# Altium footprint library SOM-188.PcbLib: 7 footprints
Each footprint in its own frame and in the unit in brackets; x right, y up, seen from the top. Pads: shape width x height; smd on the part's side, far side on the other; paste and mask are expansions set on the pad; w line width, h text height; cw(c..) or ccw(c..) is an arc to the next point about the centre after c.
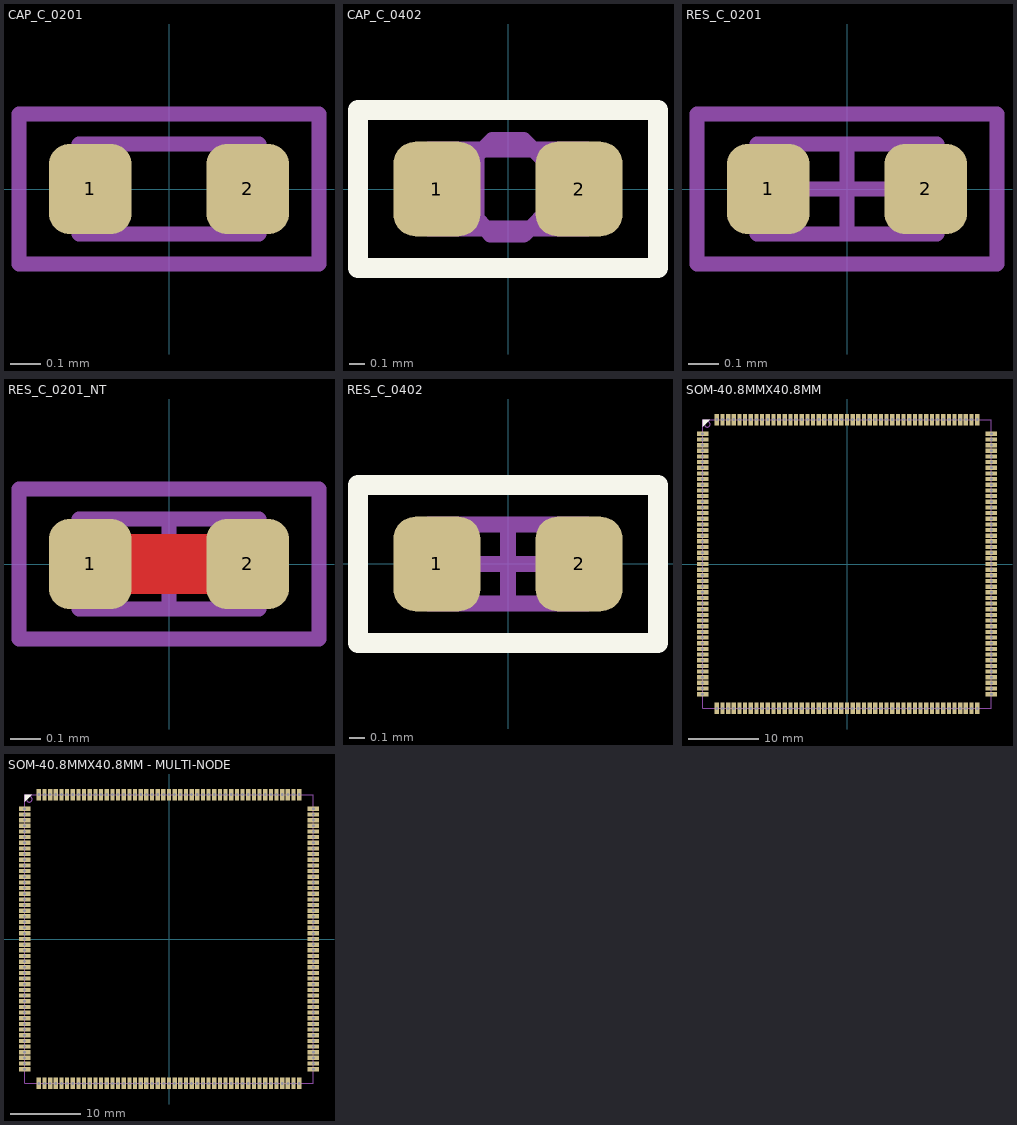
[diagram p0: the footprints below, top view; thin cyan lines are the x and y axes]

## CAP_C_0201 [mm] "Chip Capacitor, 2-Leads, Body 0.6x0.3mm, IPC Medium Density"
height 0.3
pads (2):
  rrect50% 0.275x0.3 smd mask+0.05: 1(-0.262,0) 2(0.262,0)
Assy TOP (M11):
  lines w0.05: -0.3,-0.15 -0.3,0.15 0.3,0.15 0.3,-0.15 -0.3,-0.15
  text ".Designator" at -0.25,-0.1 h0.2
Guard TOP (M15):
  lines w0.05: -0.5,-0.25 0.5,-0.25 0.5,0.25 -0.5,0.25 -0.5,-0.25
  text "C" at -0.075,-0.1 h0.2
3D body "User Library-SMD CAPACITOR.STEP": height 0.28, standoff -0.02, extent -0.3,-0.15 0.3,0.15

## CAP_C_0402 [mm] "Chip Capacitor, 2-Leads, Body 1.0x0.5mm, IPC High Density"
height 0.5
pads (2):
  rrect50% 0.55x0.6 smd: 1(-0.45,0) 2(0.45,0)
Top Overlay:
  lines w0.125: -0.95,-0.5 0.95,-0.5 0.95,0.5 -0.95,0.5 -0.95,-0.5
Assy TOP (M11):
  lines w0.1: -0.5,-0.25 0.5,-0.25 0.5,0.25 -0.5,0.25 -0.5,-0.25
  text ".Designator" at -0.4,-0.15 h0.3
3D TOP (M13):
  lines w0.1: -0.5,-0.25 -0.5,0.25 0.5,0.25 0.5,-0.25 -0.5,-0.25
Guard TOP (M15):
  lines w0.1: 0.2,-0.19 0.1,-0.29 -0.11,-0.29 -0.2,-0.18 -0.2,0.21 -0.1,0.31 0.1,0.31 0.2,0.21 ; -0.95,-0.5 -0.95,0.5 0.95,0.5 0.95,-0.5 -0.95,-0.5
3D body "CAP_C_0402.step": height 0.2, standoff 0, extent -0.5,-0.3 0.5,0.3

## RES_C_0201 [mm] "Chip Resistor, 2-Leads, Body 0.6x0.3mm, IPC Medium Density"
height 0.23
pads (2):
  rrect50% 0.275x0.3 smd mask+0.05: 1(-0.262,0) 2(0.262,0)
Assy TOP (M11):
  lines w0.05: -0.3,-0.15 -0.3,0.15 0.3,0.15 0.3,-0.15 -0.3,-0.15
  text ".Designator" at -0.25,-0.1 h0.2
Guard TOP (M15):
  lines w0.05: -0.125,0 0.125,0 ; 0,-0.125 0,0.125 ; -0.5,-0.25 0.5,-0.25 0.5,0.25 -0.5,0.25 -0.5,-0.25
3D body "User Library-SMD RESISTOR-10201.STEP": height 0.22, standoff -0.01, extent -0.3,-0.15 0.3,0.15

## RES_C_0201_NT [mm] "Chip Resistor, 2-Leads, Body 0.6x0.3mm, IPC Medium Density"
height 0.23
pads (2):
  rrect50% 0.275x0.3 smd mask+0.05: 1(-0.262,0) 2(0.262,0)
Top Layer:
  lines w0.2: -0.262,0 0.262,0
Assy TOP (M11):
  lines w0.05: -0.3,-0.15 0.3,-0.15 0.3,0.15 -0.3,0.15 -0.3,-0.15
  text ".Designator" at -0.25,-0.1 h0.2
Guard TOP (M15):
  lines w0.05: -0.125,0 0.125,0 ; 0,-0.125 0,0.125 ; -0.5,-0.25 -0.5,0.25 0.5,0.25 0.5,-0.25 -0.5,-0.25
3D body "User Library-SMD RESISTOR-10201.STEP": height 0.22, standoff -0.01, extent -0.3,-0.15 0.3,0.15

## RES_C_0402 [mm] "Chip Resistor, 2-Leads, Body 1.0x0.5mm, IPC Medium Density"
height 0.35
pads (2):
  rrect50% 0.55x0.6 smd: 1(-0.45,0) 2(0.45,0)
Top Overlay:
  lines w0.125: -0.95,-0.5 0.95,-0.5 0.95,0.5 -0.95,0.5 -0.95,-0.5
Assy TOP (M11):
  lines w0.1: -0.5,-0.25 0.5,-0.25 0.5,0.25 -0.5,0.25 -0.5,-0.25
  text ".Designator" at -0.4,-0.15 h0.3
3D TOP (M13):
  lines w0.1: -0.5,-0.25 -0.5,0.25 0.5,0.25 0.5,-0.25 -0.5,-0.25
Guard TOP (M15):
  lines w0.1: -0.25,0 0.25,0 ; 0,-0.25 0,0.25 ; -0.95,-0.5 -0.95,0.5 0.95,0.5 0.95,-0.5 -0.95,-0.5
3D body "RES_0402.step": height 0.2, standoff 0, extent -0.5,-0.3 0.5,0.3

## SOM-40.8MMX40.8MM [mm] "188-Castellated thru-holes"
pads (188):
  rect 1.6x0.6 / inner rect 1.6x0.6 / far side rect 3x0.6 hole 0.4 mask+0.05: 1(-20.4,18.4) 2(-20.4,17.6) 3(-20.4,16.8) 4(-20.4,16) 5(-20.4,15.2) 6(-20.4,14.4) 7(-20.4,13.6) 8(-20.4,12.8) 9(-20.4,12) 10(-20.4,11.2) 11(-20.4,10.4) 12(-20.4,9.6) 13(-20.4,8.8) 14(-20.4,8) 15(-20.4,7.2) 16(-20.4,6.4) 17(-20.4,5.6) 18(-20.4,4.8) 19(-20.4,4) 20(-20.4,3.2) 21(-20.4,2.4) 22(-20.4,1.6) 23(-20.4,0.8) 24(-20.4,0) 25(-20.4,-0.8) 26(-20.4,-1.6) 27(-20.4,-2.4) 28(-20.4,-3.2) 29(-20.4,-4) 30(-20.4,-4.8) 31(-20.4,-5.6) 32(-20.4,-6.4) 33(-20.4,-7.2) 34(-20.4,-8) 35(-20.4,-8.8) 36(-20.4,-9.6) 37(-20.4,-10.4) 38(-20.4,-11.2) 39(-20.4,-12) 40(-20.4,-12.8) 41(-20.4,-13.6) 42(-20.4,-14.4) 43(-20.4,-15.2) 44(-20.4,-16) 45(-20.4,-16.8) 46(-20.4,-17.6) 47(-20.4,-18.4) 95(20.4,-18.4) 96(20.4,-17.6) 97(20.4,-16.8) 98(20.4,-16) 99(20.4,-15.2) 100(20.4,-14.4) 101(20.4,-13.6) 102(20.4,-12.8) 103(20.4,-12) 104(20.4,-11.2) 105(20.4,-10.4) 106(20.4,-9.6) 107(20.4,-8.8) 108(20.4,-8) 109(20.4,-7.2) 110(20.4,-6.4) 111(20.4,-5.6) 112(20.4,-4.8) 113(20.4,-4) 114(20.4,-3.2) 115(20.4,-2.4) 116(20.4,-1.6) 117(20.4,-0.8) 118(20.4,0) 119(20.4,0.8) 120(20.4,1.6) 121(20.4,2.4) 122(20.4,3.2) 123(20.4,4) 124(20.4,4.8) 125(20.4,5.6) 126(20.4,6.4) 127(20.4,7.2) 128(20.4,8) 129(20.4,8.8) 130(20.4,9.6) 131(20.4,10.4) 132(20.4,11.2) 133(20.4,12) 134(20.4,12.8) 135(20.4,13.6) 136(20.4,14.4) 137(20.4,15.2) 138(20.4,16) 139(20.4,16.8) 140(20.4,17.6) 141(20.4,18.4)
  rect 0.6x1.6 / inner rect 0.6x1.6 / far side rect 0.6x3 hole 0.4 mask+0.05: 48(-18.4,-20.4) 49(-17.6,-20.4) 50(-16.8,-20.4) 51(-16,-20.4) 52(-15.2,-20.4) 53(-14.4,-20.4) 54(-13.6,-20.4) 55(-12.8,-20.4) 56(-12,-20.4) 57(-11.2,-20.4) 58(-10.4,-20.4) 59(-9.6,-20.4) 60(-8.8,-20.4) 61(-8,-20.4) 62(-7.2,-20.4) 63(-6.4,-20.4) 64(-5.6,-20.4) 65(-4.8,-20.4) 66(-4,-20.4) 67(-3.2,-20.4) 68(-2.4,-20.4) 69(-1.6,-20.4) 70(-0.8,-20.4) 71(0,-20.4) 72(0.8,-20.4) 73(1.6,-20.4) 74(2.4,-20.4) 75(3.2,-20.4) 76(4,-20.4) 77(4.8,-20.4) 78(5.6,-20.4) 79(6.4,-20.4) 80(7.2,-20.4) 81(8,-20.4) 82(8.8,-20.4) 83(9.6,-20.4) 84(10.4,-20.4) 85(11.2,-20.4) 86(12,-20.4) 87(12.8,-20.4) 88(13.6,-20.4) 89(14.4,-20.4) 90(15.2,-20.4) 91(16,-20.4) 92(16.8,-20.4) 93(17.6,-20.4) 94(18.4,-20.4) 142(18.4,20.4) 143(17.6,20.4) 144(16.8,20.4) 145(16,20.4) 146(15.2,20.4) 147(14.4,20.4) 148(13.6,20.4) 149(12.8,20.4) 150(12,20.4) 151(11.2,20.4) 152(10.4,20.4) 153(9.6,20.4) 154(8.8,20.4) 155(8,20.4) 156(7.2,20.4) 157(6.4,20.4) 158(5.6,20.4) 159(4.8,20.4) 160(4,20.4) 161(3.2,20.4) 162(2.4,20.4) 163(1.6,20.4) 164(0.8,20.4) 165(0,20.4) 166(-0.8,20.4) 167(-1.6,20.4) 168(-2.4,20.4) 169(-3.2,20.4) 170(-4,20.4) 171(-4.8,20.4) 172(-5.6,20.4) 173(-6.4,20.4) 174(-7.2,20.4) 175(-8,20.4) 176(-8.8,20.4) 177(-9.6,20.4) 178(-10.4,20.4) 179(-11.2,20.4) 180(-12,20.4) 181(-12.8,20.4) 182(-13.6,20.4) 183(-14.4,20.4) 184(-15.2,20.4) 185(-16,20.4) 186(-16.8,20.4) 187(-17.6,20.4) 188(-18.4,20.4)
Top Overlay:
  region: -20.4,20.4 -19.4,20.4 -20.4,19.4
Bottom Overlay:
  region: -20.4,20.4 -19.4,20.4 -20.4,19.4
Assy TOP (M11):
  circle w0.01: c-19.75,19.75 r0.4
  lines w0.01: -20.4,-20.4 -20.4,20.4 20.4,20.4 20.4,-20.4 -20.4,-20.4
  text "1" at -20.1,18.175 h0.4
3D body: height 0.04, standoff 0, extent 18.9,18.1 20.4,18.7
3D body: height 0.04, standoff 0, extent 18.9,17.3 20.4,17.9
3D body: height 0.04, standoff 0, extent 18.9,16.5 20.4,17.1
3D body: height 0.04, standoff 0, extent 18.9,15.7 20.4,16.3
3D body: height 0.04, standoff 0, extent 18.9,14.9 20.4,15.5
3D body: height 0.04, standoff 0, extent 18.9,14.1 20.4,14.7
3D body: height 0.04, standoff 0, extent 18.9,13.3 20.4,13.9
3D body: height 0.04, standoff 0, extent 18.9,12.5 20.4,13.1
3D body: height 0.04, standoff 0, extent 18.9,11.7 20.4,12.3
3D body: height 0.04, standoff 0, extent 18.9,10.9 20.4,11.5
3D body: height 0.04, standoff 0, extent 18.9,10.1 20.4,10.7
3D body: height 0.04, standoff 0, extent 18.9,9.3 20.4,9.9
3D body: height 0.04, standoff 0, extent 18.9,8.5 20.4,9.1
3D body: height 0.04, standoff 0, extent 18.9,7.7 20.4,8.3
3D body: height 0.04, standoff 0, extent 18.9,6.9 20.4,7.5
3D body: height 0.04, standoff 0, extent 18.9,6.1 20.4,6.7
3D body: height 0.04, standoff 0, extent 18.9,5.3 20.4,5.9
3D body: height 0.04, standoff 0, extent 18.9,4.5 20.4,5.1
3D body: height 0.04, standoff 0, extent 18.9,3.7 20.4,4.3
3D body: height 0.04, standoff 0, extent 18.9,2.9 20.4,3.5
3D body: height 0.04, standoff 0, extent 18.9,2.1 20.4,2.7
3D body: height 0.04, standoff 0, extent 18.9,1.3 20.4,1.9
3D body: height 0.04, standoff 0, extent 18.9,0.5 20.4,1.1
3D body: height 0.04, standoff 0, extent 18.9,-0.3 20.4,0.3
3D body: height 0.04, standoff 0, extent 18.9,-1.1 20.4,-0.5
3D body: height 0.04, standoff 0, extent 18.9,-1.9 20.4,-1.3
3D body: height 0.04, standoff 0, extent 18.9,-2.7 20.4,-2.1
3D body: height 0.04, standoff 0, extent 18.9,-3.5 20.4,-2.9
3D body: height 0.04, standoff 0, extent 18.9,-4.3 20.4,-3.7
3D body: height 0.04, standoff 0, extent 18.9,-5.1 20.4,-4.5
3D body: height 0.04, standoff 0, extent 18.9,-5.9 20.4,-5.3
3D body: height 0.04, standoff 0, extent 18.9,-6.7 20.4,-6.1
3D body: height 0.04, standoff 0, extent 18.9,-7.5 20.4,-6.9
3D body: height 0.04, standoff 0, extent 18.9,-8.3 20.4,-7.7
3D body: height 0.04, standoff 0, extent 18.9,-9.1 20.4,-8.5
3D body: height 0.04, standoff 0, extent 18.9,-9.9 20.4,-9.3
3D body: height 0.04, standoff 0, extent 18.9,-10.7 20.4,-10.1
3D body: height 0.04, standoff 0, extent 18.9,-11.5 20.4,-10.9
3D body: height 0.04, standoff 0, extent 18.9,-12.3 20.4,-11.7
3D body: height 0.04, standoff 0, extent 18.9,-13.1 20.4,-12.5
3D body: height 0.04, standoff 0, extent 18.9,-13.9 20.4,-13.3
3D body: height 0.04, standoff 0, extent 18.9,-14.7 20.4,-14.1
3D body: height 0.04, standoff 0, extent 18.9,-15.5 20.4,-14.9
3D body: height 0.04, standoff 0, extent 18.9,-16.3 20.4,-15.7
3D body: height 0.04, standoff 0, extent 18.9,-17.1 20.4,-16.5
3D body: height 0.04, standoff 0, extent 18.9,-17.9 20.4,-17.3
3D body: height 0.04, standoff 0, extent 18.9,-18.7 20.4,-18.1
3D body: height 0.04, standoff 0, extent -18.7,18.9 -18.1,20.4
3D body: height 0.04, standoff 0, extent -17.9,18.9 -17.3,20.4
3D body: height 0.04, standoff 0, extent -17.1,18.9 -16.5,20.4
3D body: height 0.04, standoff 0, extent -16.3,18.9 -15.7,20.4
3D body: height 0.04, standoff 0, extent -15.5,18.9 -14.9,20.4
3D body: height 0.04, standoff 0, extent -14.7,18.9 -14.1,20.4
3D body: height 0.04, standoff 0, extent -13.9,18.9 -13.3,20.4
3D body: height 0.04, standoff 0, extent -13.1,18.9 -12.5,20.4
3D body: height 0.04, standoff 0, extent -12.3,18.9 -11.7,20.4
3D body: height 0.04, standoff 0, extent -11.5,18.9 -10.9,20.4
3D body: height 0.04, standoff 0, extent -10.7,18.9 -10.1,20.4
3D body: height 0.04, standoff 0, extent -9.9,18.9 -9.3,20.4
3D body: height 0.04, standoff 0, extent -9.1,18.9 -8.5,20.4
3D body: height 0.04, standoff 0, extent -8.3,18.9 -7.7,20.4
3D body: height 0.04, standoff 0, extent -7.5,18.9 -6.9,20.4
3D body: height 0.04, standoff 0, extent -6.7,18.9 -6.1,20.4
3D body: height 0.04, standoff 0, extent -5.9,18.9 -5.3,20.4
3D body: height 0.04, standoff 0, extent -5.1,18.9 -4.5,20.4
3D body: height 0.04, standoff 0, extent -4.3,18.9 -3.7,20.4
3D body: height 0.04, standoff 0, extent -3.5,18.9 -2.9,20.4
3D body: height 0.04, standoff 0, extent -2.7,18.9 -2.1,20.4
3D body: height 0.04, standoff 0, extent -1.9,18.9 -1.3,20.4
3D body: height 0.04, standoff 0, extent -1.1,18.9 -0.5,20.4
3D body: height 0.04, standoff 0, extent -0.3,18.9 0.3,20.4
3D body: height 0.04, standoff 0, extent 0.5,18.9 1.1,20.4
3D body: height 0.04, standoff 0, extent 1.3,18.9 1.9,20.4
3D body: height 0.04, standoff 0, extent 2.1,18.9 2.7,20.4
3D body: height 0.04, standoff 0, extent 2.9,18.9 3.5,20.4
3D body: height 0.04, standoff 0, extent 3.7,18.9 4.3,20.4
3D body: height 0.04, standoff 0, extent 4.5,18.9 5.1,20.4
3D body: height 0.04, standoff 0, extent 5.3,18.9 5.9,20.4
3D body: height 0.04, standoff 0, extent 6.1,18.9 6.7,20.4
3D body: height 0.04, standoff 0, extent 6.9,18.9 7.5,20.4
3D body: height 0.04, standoff 0, extent 7.7,18.9 8.3,20.4
3D body: height 0.04, standoff 0, extent 8.5,18.9 9.1,20.4
3D body: height 0.04, standoff 0, extent 9.3,18.9 9.9,20.4
3D body: height 0.04, standoff 0, extent 10.1,18.9 10.7,20.4
3D body: height 0.04, standoff 0, extent 10.9,18.9 11.5,20.4
3D body: height 0.04, standoff 0, extent 11.7,18.9 12.3,20.4
3D body: height 0.04, standoff 0, extent 12.5,18.9 13.1,20.4
3D body: height 0.04, standoff 0, extent 13.3,18.9 13.9,20.4
3D body: height 0.04, standoff 0, extent 14.1,18.9 14.7,20.4
3D body: height 0.04, standoff 0, extent 14.9,18.9 15.5,20.4
3D body: height 0.04, standoff 0, extent 15.7,18.9 16.3,20.4
3D body: height 0.04, standoff 0, extent 16.5,18.9 17.1,20.4
3D body: height 0.04, standoff 0, extent 17.3,18.9 17.9,20.4
3D body: height 0.04, standoff 0, extent 18.1,18.9 18.7,20.4
3D body: height 0.04, standoff 0, extent -18.7,-20.4 -18.1,-18.9
3D body: height 0.04, standoff 0, extent -17.9,-20.4 -17.3,-18.9
3D body: height 0.04, standoff 0, extent -17.1,-20.4 -16.5,-18.9
3D body: height 0.04, standoff 0, extent -16.3,-20.4 -15.7,-18.9
3D body: height 0.04, standoff 0, extent -15.5,-20.4 -14.9,-18.9
3D body: height 0.04, standoff 0, extent -14.7,-20.4 -14.1,-18.9
3D body: height 0.04, standoff 0, extent -13.9,-20.4 -13.3,-18.9
3D body: height 0.04, standoff 0, extent -13.1,-20.4 -12.5,-18.9
3D body: height 0.04, standoff 0, extent -12.3,-20.4 -11.7,-18.9
3D body: height 0.04, standoff 0, extent -11.5,-20.4 -10.9,-18.9
3D body: height 0.04, standoff 0, extent -10.7,-20.4 -10.1,-18.9
3D body: height 0.04, standoff 0, extent -9.9,-20.4 -9.3,-18.9
3D body: height 0.04, standoff 0, extent -9.1,-20.4 -8.5,-18.9
3D body: height 0.04, standoff 0, extent -8.3,-20.4 -7.7,-18.9
3D body: height 0.04, standoff 0, extent -7.5,-20.4 -6.9,-18.9
3D body: height 0.04, standoff 0, extent -6.7,-20.4 -6.1,-18.9
3D body: height 0.04, standoff 0, extent -5.9,-20.4 -5.3,-18.9
3D body: height 0.04, standoff 0, extent -5.1,-20.4 -4.5,-18.9
3D body: height 0.04, standoff 0, extent -4.3,-20.4 -3.7,-18.9
3D body: height 0.04, standoff 0, extent -3.5,-20.4 -2.9,-18.9
3D body: height 0.04, standoff 0, extent -2.7,-20.4 -2.1,-18.9
3D body: height 0.04, standoff 0, extent -1.9,-20.4 -1.3,-18.9
3D body: height 0.04, standoff 0, extent -1.1,-20.4 -0.5,-18.9
3D body: height 0.04, standoff 0, extent -0.3,-20.4 0.3,-18.9
3D body: height 0.04, standoff 0, extent 0.5,-20.4 1.1,-18.9
3D body: height 0.04, standoff 0, extent 1.3,-20.4 1.9,-18.9
3D body: height 0.04, standoff 0, extent 2.1,-20.4 2.7,-18.9
3D body: height 0.04, standoff 0, extent 2.9,-20.4 3.5,-18.9
3D body: height 0.04, standoff 0, extent 3.7,-20.4 4.3,-18.9
3D body: height 0.04, standoff 0, extent 4.5,-20.4 5.1,-18.9
3D body: height 0.04, standoff 0, extent 5.3,-20.4 5.9,-18.9
3D body: height 0.04, standoff 0, extent 6.1,-20.4 6.7,-18.9
3D body: height 0.04, standoff 0, extent 6.9,-20.4 7.5,-18.9
3D body: height 0.04, standoff 0, extent 7.7,-20.4 8.3,-18.9
3D body: height 0.04, standoff 0, extent 8.5,-20.4 9.1,-18.9
3D body: height 0.04, standoff 0, extent 9.3,-20.4 9.9,-18.9
3D body: height 0.04, standoff 0, extent 10.1,-20.4 10.7,-18.9
3D body: height 0.04, standoff 0, extent 10.9,-20.4 11.5,-18.9
3D body: height 0.04, standoff 0, extent 11.7,-20.4 12.3,-18.9
3D body: height 0.04, standoff 0, extent 12.5,-20.4 13.1,-18.9
3D body: height 0.04, standoff 0, extent 13.3,-20.4 13.9,-18.9
3D body: height 0.04, standoff 0, extent 14.1,-20.4 14.7,-18.9
3D body: height 0.04, standoff 0, extent 14.9,-20.4 15.5,-18.9
3D body: height 0.04, standoff 0, extent 15.7,-20.4 16.3,-18.9
3D body: height 0.04, standoff 0, extent 16.5,-20.4 17.1,-18.9
3D body: height 0.04, standoff 0, extent 17.3,-20.4 17.9,-18.9
3D body: height 0.04, standoff 0, extent 18.1,-20.4 18.7,-18.9
3D body: height 0.04, standoff 0, extent -20.4,-18.7 -18.9,-18.1
3D body: height 0.04, standoff 0, extent -20.4,-17.9 -18.9,-17.3
3D body: height 0.04, standoff 0, extent -20.4,-17.1 -18.9,-16.5
3D body: height 0.04, standoff 0, extent -20.4,-16.3 -18.9,-15.7
3D body: height 0.04, standoff 0, extent -20.4,-15.5 -18.9,-14.9
3D body: height 0.04, standoff 0, extent -20.4,-14.7 -18.9,-14.1
3D body: height 0.04, standoff 0, extent -20.4,-13.9 -18.9,-13.3
3D body: height 0.04, standoff 0, extent -20.4,-13.1 -18.9,-12.5
3D body: height 0.04, standoff 0, extent -20.4,-12.3 -18.9,-11.7
3D body: height 0.04, standoff 0, extent -20.4,-11.5 -18.9,-10.9
3D body: height 0.04, standoff 0, extent -20.4,-10.7 -18.9,-10.1
3D body: height 0.04, standoff 0, extent -20.4,-9.9 -18.9,-9.3
3D body: height 0.04, standoff 0, extent -20.4,-9.1 -18.9,-8.5
3D body: height 0.04, standoff 0, extent -20.4,-8.3 -18.9,-7.7
3D body: height 0.04, standoff 0, extent -20.4,-7.5 -18.9,-6.9
3D body: height 0.04, standoff 0, extent -20.4,-6.7 -18.9,-6.1
3D body: height 0.04, standoff 0, extent -20.4,-5.9 -18.9,-5.3
3D body: height 0.04, standoff 0, extent -20.4,-5.1 -18.9,-4.5
3D body: height 0.04, standoff 0, extent -20.4,-4.3 -18.9,-3.7
3D body: height 0.04, standoff 0, extent -20.4,-3.5 -18.9,-2.9
3D body: height 0.04, standoff 0, extent -20.4,-2.7 -18.9,-2.1
3D body: height 0.04, standoff 0, extent -20.4,-1.9 -18.9,-1.3
3D body: height 0.04, standoff 0, extent -20.4,-1.1 -18.9,-0.5
3D body: height 0.04, standoff 0, extent -20.4,-0.3 -18.9,0.3
3D body: height 0.04, standoff 0, extent -20.4,0.5 -18.9,1.1
3D body: height 0.04, standoff 0, extent -20.4,1.3 -18.9,1.9
3D body: height 0.04, standoff 0, extent -20.4,2.1 -18.9,2.7
3D body: height 0.04, standoff 0, extent -20.4,2.9 -18.9,3.5
3D body: height 0.04, standoff 0, extent -20.4,3.7 -18.9,4.3
3D body: height 0.04, standoff 0, extent -20.4,4.5 -18.9,5.1
3D body: height 0.04, standoff 0, extent -20.4,5.3 -18.9,5.9
3D body: height 0.04, standoff 0, extent -20.4,6.1 -18.9,6.7
3D body: height 0.04, standoff 0, extent -20.4,6.9 -18.9,7.5
3D body: height 0.04, standoff 0, extent -20.4,7.7 -18.9,8.3
3D body: height 0.04, standoff 0, extent -20.4,8.5 -18.9,9.1
3D body: height 0.04, standoff 0, extent -20.4,9.3 -18.9,9.9
3D body: height 0.04, standoff 0, extent -20.4,10.1 -18.9,10.7
3D body: height 0.04, standoff 0, extent -20.4,10.9 -18.9,11.5
3D body: height 0.04, standoff 0, extent -20.4,11.7 -18.9,12.3
3D body: height 0.04, standoff 0, extent -20.4,12.5 -18.9,13.1
3D body: height 0.04, standoff 0, extent -20.4,13.3 -18.9,13.9
3D body: height 0.04, standoff 0, extent -20.4,14.1 -18.9,14.7
3D body: height 0.04, standoff 0, extent -20.4,14.9 -18.9,15.5
3D body: height 0.04, standoff 0, extent -20.4,15.7 -18.9,16.3
3D body: height 0.04, standoff 0, extent -20.4,16.5 -18.9,17.1
3D body: height 0.04, standoff 0, extent -20.4,17.3 -18.9,17.9
3D body: height 0.04, standoff 0, extent -20.4,18.1 -18.9,18.7
3D body: height 0.04, standoff 0, extent -20.4,19.4 -19.4,20.4
3D body: height 0.04, standoff 0, extent -20.4,19.4 -19.4,20.4

## SOM-40.8MMX40.8MM - MULTI-NODE [mm] "188-Castellated thru-holes"
pads (188):
  rect 1.6x0.6 / inner rect 1.6x0.6 / far side rect 3x0.6 hole 0.4 mask+0.05: 1(-20.4,18.4) 2(-20.4,17.6) 3(-20.4,16.8) 4(-20.4,16) 5(-20.4,15.2) 6(-20.4,14.4) 7(-20.4,13.6) 8(-20.4,12.8) 9(-20.4,12) 10(-20.4,11.2) 11(-20.4,10.4) 12(-20.4,9.6) 13(-20.4,8.8) 14(-20.4,8) 15(-20.4,7.2) 16(-20.4,6.4) 17(-20.4,5.6) 18(-20.4,4.8) 19(-20.4,4) 20(-20.4,3.2) 21(-20.4,2.4) 22(-20.4,1.6) 23(-20.4,0.8) 24(-20.4,0) 25(-20.4,-0.8) 26(-20.4,-1.6) 27(-20.4,-2.4) 28(-20.4,-3.2) 29(-20.4,-4) 30(-20.4,-4.8) 31(-20.4,-5.6) 32(-20.4,-6.4) 33(-20.4,-7.2) 34(-20.4,-8) 35(-20.4,-8.8) 36(-20.4,-9.6) 37(-20.4,-10.4) 38(-20.4,-11.2) 39(-20.4,-12) 40(-20.4,-12.8) 41(-20.4,-13.6) 42(-20.4,-14.4) 43(-20.4,-15.2) 44(-20.4,-16) 45(-20.4,-16.8) 46(-20.4,-17.6) 47(-20.4,-18.4) 95(20.4,-18.4) 96(20.4,-17.6) 97(20.4,-16.8) 98(20.4,-16) 99(20.4,-15.2) 100(20.4,-14.4) 101(20.4,-13.6) 102(20.4,-12.8) 103(20.4,-12) 104(20.4,-11.2) 105(20.4,-10.4) 106(20.4,-9.6) 107(20.4,-8.8) 108(20.4,-8) 109(20.4,-7.2) 110(20.4,-6.4) 111(20.4,-5.6) 112(20.4,-4.8) 113(20.4,-4) 114(20.4,-3.2) 115(20.4,-2.4) 116(20.4,-1.6) 117(20.4,-0.8) 118(20.4,0) 119(20.4,0.8) 120(20.4,1.6) 121(20.4,2.4) 122(20.4,3.2) 123(20.4,4) 124(20.4,4.8) 125(20.4,5.6) 126(20.4,6.4) 127(20.4,7.2) 128(20.4,8) 129(20.4,8.8) 130(20.4,9.6) 131(20.4,10.4) 132(20.4,11.2) 133(20.4,12) 134(20.4,12.8) 135(20.4,13.6) 136(20.4,14.4) 137(20.4,15.2) 138(20.4,16) 139(20.4,16.8) 140(20.4,17.6) 141(20.4,18.4)
  rect 0.6x1.6 / inner rect 0.6x1.6 / far side rect 0.6x3 hole 0.4 mask+0.05: 48(-18.4,-20.4) 49(-17.6,-20.4) 50(-16.8,-20.4) 51(-16,-20.4) 52(-15.2,-20.4) 53(-14.4,-20.4) 54(-13.6,-20.4) 55(-12.8,-20.4) 56(-12,-20.4) 57(-11.2,-20.4) 58(-10.4,-20.4) 59(-9.6,-20.4) 60(-8.8,-20.4) 61(-8,-20.4) 62(-7.2,-20.4) 63(-6.4,-20.4) 64(-5.6,-20.4) 65(-4.8,-20.4) 66(-4,-20.4) 67(-3.2,-20.4) 68(-2.4,-20.4) 69(-1.6,-20.4) 70(-0.8,-20.4) 71(0,-20.4) 72(0.8,-20.4) 73(1.6,-20.4) 74(2.4,-20.4) 75(3.2,-20.4) 76(4,-20.4) 77(4.8,-20.4) 78(5.6,-20.4) 79(6.4,-20.4) 80(7.2,-20.4) 81(8,-20.4) 82(8.8,-20.4) 83(9.6,-20.4) 84(10.4,-20.4) 85(11.2,-20.4) 86(12,-20.4) 87(12.8,-20.4) 88(13.6,-20.4) 89(14.4,-20.4) 90(15.2,-20.4) 91(16,-20.4) 92(16.8,-20.4) 93(17.6,-20.4) 94(18.4,-20.4) 142(18.4,20.4) 143(17.6,20.4) 144(16.8,20.4) 145(16,20.4) 146(15.2,20.4) 147(14.4,20.4) 148(13.6,20.4) 149(12.8,20.4) 150(12,20.4) 151(11.2,20.4) 152(10.4,20.4) 153(9.6,20.4) 154(8.8,20.4) 155(8,20.4) 156(7.2,20.4) 157(6.4,20.4) 158(5.6,20.4) 159(4.8,20.4) 160(4,20.4) 161(3.2,20.4) 162(2.4,20.4) 163(1.6,20.4) 164(0.8,20.4) 165(0,20.4) 166(-0.8,20.4) 167(-1.6,20.4) 168(-2.4,20.4) 169(-3.2,20.4) 170(-4,20.4) 171(-4.8,20.4) 172(-5.6,20.4) 173(-6.4,20.4) 174(-7.2,20.4) 175(-8,20.4) 176(-8.8,20.4) 177(-9.6,20.4) 178(-10.4,20.4) 179(-11.2,20.4) 180(-12,20.4) 181(-12.8,20.4) 182(-13.6,20.4) 183(-14.4,20.4) 184(-15.2,20.4) 185(-16,20.4) 186(-16.8,20.4) 187(-17.6,20.4) 188(-18.4,20.4)
Top Overlay:
  region: -20.4,20.4 -19.4,20.4 -20.4,19.4
Bottom Overlay:
  region: -20.4,20.4 -19.4,20.4 -20.4,19.4
Assy TOP (M11):
  circle w0.01: c-19.75,19.75 r0.4
  lines w0.01: -20.4,-20.4 -20.4,20.4 20.4,20.4 20.4,-20.4 -20.4,-20.4
  text "1" at -20.1,18.175 h0.4
3D body: height 0.04, standoff 0, extent 18.9,18.1 20.4,18.7
3D body: height 0.04, standoff 0, extent 18.9,17.3 20.4,17.9
3D body: height 0.04, standoff 0, extent 18.9,16.5 20.4,17.1
3D body: height 0.04, standoff 0, extent 18.9,15.7 20.4,16.3
3D body: height 0.04, standoff 0, extent 18.9,14.9 20.4,15.5
3D body: height 0.04, standoff 0, extent 18.9,14.1 20.4,14.7
3D body: height 0.04, standoff 0, extent 18.9,13.3 20.4,13.9
3D body: height 0.04, standoff 0, extent 18.9,12.5 20.4,13.1
3D body: height 0.04, standoff 0, extent 18.9,11.7 20.4,12.3
3D body: height 0.04, standoff 0, extent 18.9,10.9 20.4,11.5
3D body: height 0.04, standoff 0, extent 18.9,10.1 20.4,10.7
3D body: height 0.04, standoff 0, extent 18.9,9.3 20.4,9.9
3D body: height 0.04, standoff 0, extent 18.9,8.5 20.4,9.1
3D body: height 0.04, standoff 0, extent 18.9,7.7 20.4,8.3
3D body: height 0.04, standoff 0, extent 18.9,6.9 20.4,7.5
3D body: height 0.04, standoff 0, extent 18.9,6.1 20.4,6.7
3D body: height 0.04, standoff 0, extent 18.9,5.3 20.4,5.9
3D body: height 0.04, standoff 0, extent 18.9,4.5 20.4,5.1
3D body: height 0.04, standoff 0, extent 18.9,3.7 20.4,4.3
3D body: height 0.04, standoff 0, extent 18.9,2.9 20.4,3.5
3D body: height 0.04, standoff 0, extent 18.9,2.1 20.4,2.7
3D body: height 0.04, standoff 0, extent 18.9,1.3 20.4,1.9
3D body: height 0.04, standoff 0, extent 18.9,0.5 20.4,1.1
3D body: height 0.04, standoff 0, extent 18.9,-0.3 20.4,0.3
3D body: height 0.04, standoff 0, extent 18.9,-1.1 20.4,-0.5
3D body: height 0.04, standoff 0, extent 18.9,-1.9 20.4,-1.3
3D body: height 0.04, standoff 0, extent 18.9,-2.7 20.4,-2.1
3D body: height 0.04, standoff 0, extent 18.9,-3.5 20.4,-2.9
3D body: height 0.04, standoff 0, extent 18.9,-4.3 20.4,-3.7
3D body: height 0.04, standoff 0, extent 18.9,-5.1 20.4,-4.5
3D body: height 0.04, standoff 0, extent 18.9,-5.9 20.4,-5.3
3D body: height 0.04, standoff 0, extent 18.9,-6.7 20.4,-6.1
3D body: height 0.04, standoff 0, extent 18.9,-7.5 20.4,-6.9
3D body: height 0.04, standoff 0, extent 18.9,-8.3 20.4,-7.7
3D body: height 0.04, standoff 0, extent 18.9,-9.1 20.4,-8.5
3D body: height 0.04, standoff 0, extent 18.9,-9.9 20.4,-9.3
3D body: height 0.04, standoff 0, extent 18.9,-10.7 20.4,-10.1
3D body: height 0.04, standoff 0, extent 18.9,-11.5 20.4,-10.9
3D body: height 0.04, standoff 0, extent 18.9,-12.3 20.4,-11.7
3D body: height 0.04, standoff 0, extent 18.9,-13.1 20.4,-12.5
3D body: height 0.04, standoff 0, extent 18.9,-13.9 20.4,-13.3
3D body: height 0.04, standoff 0, extent 18.9,-14.7 20.4,-14.1
3D body: height 0.04, standoff 0, extent 18.9,-15.5 20.4,-14.9
3D body: height 0.04, standoff 0, extent 18.9,-16.3 20.4,-15.7
3D body: height 0.04, standoff 0, extent 18.9,-17.1 20.4,-16.5
3D body: height 0.04, standoff 0, extent 18.9,-17.9 20.4,-17.3
3D body: height 0.04, standoff 0, extent 18.9,-18.7 20.4,-18.1
3D body: height 0.04, standoff 0, extent -18.7,18.9 -18.1,20.4
3D body: height 0.04, standoff 0, extent -17.9,18.9 -17.3,20.4
3D body: height 0.04, standoff 0, extent -17.1,18.9 -16.5,20.4
3D body: height 0.04, standoff 0, extent -16.3,18.9 -15.7,20.4
3D body: height 0.04, standoff 0, extent -15.5,18.9 -14.9,20.4
3D body: height 0.04, standoff 0, extent -14.7,18.9 -14.1,20.4
3D body: height 0.04, standoff 0, extent -13.9,18.9 -13.3,20.4
3D body: height 0.04, standoff 0, extent -13.1,18.9 -12.5,20.4
3D body: height 0.04, standoff 0, extent -12.3,18.9 -11.7,20.4
3D body: height 0.04, standoff 0, extent -11.5,18.9 -10.9,20.4
3D body: height 0.04, standoff 0, extent -10.7,18.9 -10.1,20.4
3D body: height 0.04, standoff 0, extent -9.9,18.9 -9.3,20.4
3D body: height 0.04, standoff 0, extent -9.1,18.9 -8.5,20.4
3D body: height 0.04, standoff 0, extent -8.3,18.9 -7.7,20.4
3D body: height 0.04, standoff 0, extent -7.5,18.9 -6.9,20.4
3D body: height 0.04, standoff 0, extent -6.7,18.9 -6.1,20.4
3D body: height 0.04, standoff 0, extent -5.9,18.9 -5.3,20.4
3D body: height 0.04, standoff 0, extent -5.1,18.9 -4.5,20.4
3D body: height 0.04, standoff 0, extent -4.3,18.9 -3.7,20.4
3D body: height 0.04, standoff 0, extent -3.5,18.9 -2.9,20.4
3D body: height 0.04, standoff 0, extent -2.7,18.9 -2.1,20.4
3D body: height 0.04, standoff 0, extent -1.9,18.9 -1.3,20.4
3D body: height 0.04, standoff 0, extent -1.1,18.9 -0.5,20.4
3D body: height 0.04, standoff 0, extent -0.3,18.9 0.3,20.4
3D body: height 0.04, standoff 0, extent 0.5,18.9 1.1,20.4
3D body: height 0.04, standoff 0, extent 1.3,18.9 1.9,20.4
3D body: height 0.04, standoff 0, extent 2.1,18.9 2.7,20.4
3D body: height 0.04, standoff 0, extent 2.9,18.9 3.5,20.4
3D body: height 0.04, standoff 0, extent 3.7,18.9 4.3,20.4
3D body: height 0.04, standoff 0, extent 4.5,18.9 5.1,20.4
3D body: height 0.04, standoff 0, extent 5.3,18.9 5.9,20.4
3D body: height 0.04, standoff 0, extent 6.1,18.9 6.7,20.4
3D body: height 0.04, standoff 0, extent 6.9,18.9 7.5,20.4
3D body: height 0.04, standoff 0, extent 7.7,18.9 8.3,20.4
3D body: height 0.04, standoff 0, extent 8.5,18.9 9.1,20.4
3D body: height 0.04, standoff 0, extent 9.3,18.9 9.9,20.4
3D body: height 0.04, standoff 0, extent 10.1,18.9 10.7,20.4
3D body: height 0.04, standoff 0, extent 10.9,18.9 11.5,20.4
3D body: height 0.04, standoff 0, extent 11.7,18.9 12.3,20.4
3D body: height 0.04, standoff 0, extent 12.5,18.9 13.1,20.4
3D body: height 0.04, standoff 0, extent 13.3,18.9 13.9,20.4
3D body: height 0.04, standoff 0, extent 14.1,18.9 14.7,20.4
3D body: height 0.04, standoff 0, extent 14.9,18.9 15.5,20.4
3D body: height 0.04, standoff 0, extent 15.7,18.9 16.3,20.4
3D body: height 0.04, standoff 0, extent 16.5,18.9 17.1,20.4
3D body: height 0.04, standoff 0, extent 17.3,18.9 17.9,20.4
3D body: height 0.04, standoff 0, extent 18.1,18.9 18.7,20.4
3D body: height 0.04, standoff 0, extent -18.7,-20.4 -18.1,-18.9
3D body: height 0.04, standoff 0, extent -17.9,-20.4 -17.3,-18.9
3D body: height 0.04, standoff 0, extent -17.1,-20.4 -16.5,-18.9
3D body: height 0.04, standoff 0, extent -16.3,-20.4 -15.7,-18.9
3D body: height 0.04, standoff 0, extent -15.5,-20.4 -14.9,-18.9
3D body: height 0.04, standoff 0, extent -14.7,-20.4 -14.1,-18.9
3D body: height 0.04, standoff 0, extent -13.9,-20.4 -13.3,-18.9
3D body: height 0.04, standoff 0, extent -13.1,-20.4 -12.5,-18.9
3D body: height 0.04, standoff 0, extent -12.3,-20.4 -11.7,-18.9
3D body: height 0.04, standoff 0, extent -11.5,-20.4 -10.9,-18.9
3D body: height 0.04, standoff 0, extent -10.7,-20.4 -10.1,-18.9
3D body: height 0.04, standoff 0, extent -9.9,-20.4 -9.3,-18.9
3D body: height 0.04, standoff 0, extent -9.1,-20.4 -8.5,-18.9
3D body: height 0.04, standoff 0, extent -8.3,-20.4 -7.7,-18.9
3D body: height 0.04, standoff 0, extent -7.5,-20.4 -6.9,-18.9
3D body: height 0.04, standoff 0, extent -6.7,-20.4 -6.1,-18.9
3D body: height 0.04, standoff 0, extent -5.9,-20.4 -5.3,-18.9
3D body: height 0.04, standoff 0, extent -5.1,-20.4 -4.5,-18.9
3D body: height 0.04, standoff 0, extent -4.3,-20.4 -3.7,-18.9
3D body: height 0.04, standoff 0, extent -3.5,-20.4 -2.9,-18.9
3D body: height 0.04, standoff 0, extent -2.7,-20.4 -2.1,-18.9
3D body: height 0.04, standoff 0, extent -1.9,-20.4 -1.3,-18.9
3D body: height 0.04, standoff 0, extent -1.1,-20.4 -0.5,-18.9
3D body: height 0.04, standoff 0, extent -0.3,-20.4 0.3,-18.9
3D body: height 0.04, standoff 0, extent 0.5,-20.4 1.1,-18.9
3D body: height 0.04, standoff 0, extent 1.3,-20.4 1.9,-18.9
3D body: height 0.04, standoff 0, extent 2.1,-20.4 2.7,-18.9
3D body: height 0.04, standoff 0, extent 2.9,-20.4 3.5,-18.9
3D body: height 0.04, standoff 0, extent 3.7,-20.4 4.3,-18.9
3D body: height 0.04, standoff 0, extent 4.5,-20.4 5.1,-18.9
3D body: height 0.04, standoff 0, extent 5.3,-20.4 5.9,-18.9
3D body: height 0.04, standoff 0, extent 6.1,-20.4 6.7,-18.9
3D body: height 0.04, standoff 0, extent 6.9,-20.4 7.5,-18.9
3D body: height 0.04, standoff 0, extent 7.7,-20.4 8.3,-18.9
3D body: height 0.04, standoff 0, extent 8.5,-20.4 9.1,-18.9
3D body: height 0.04, standoff 0, extent 9.3,-20.4 9.9,-18.9
3D body: height 0.04, standoff 0, extent 10.1,-20.4 10.7,-18.9
3D body: height 0.04, standoff 0, extent 10.9,-20.4 11.5,-18.9
3D body: height 0.04, standoff 0, extent 11.7,-20.4 12.3,-18.9
3D body: height 0.04, standoff 0, extent 12.5,-20.4 13.1,-18.9
3D body: height 0.04, standoff 0, extent 13.3,-20.4 13.9,-18.9
3D body: height 0.04, standoff 0, extent 14.1,-20.4 14.7,-18.9
3D body: height 0.04, standoff 0, extent 14.9,-20.4 15.5,-18.9
3D body: height 0.04, standoff 0, extent 15.7,-20.4 16.3,-18.9
3D body: height 0.04, standoff 0, extent 16.5,-20.4 17.1,-18.9
3D body: height 0.04, standoff 0, extent 17.3,-20.4 17.9,-18.9
3D body: height 0.04, standoff 0, extent 18.1,-20.4 18.7,-18.9
3D body: height 0.04, standoff 0, extent -20.4,-18.7 -18.9,-18.1
3D body: height 0.04, standoff 0, extent -20.4,-17.9 -18.9,-17.3
3D body: height 0.04, standoff 0, extent -20.4,-17.1 -18.9,-16.5
3D body: height 0.04, standoff 0, extent -20.4,-16.3 -18.9,-15.7
3D body: height 0.04, standoff 0, extent -20.4,-15.5 -18.9,-14.9
3D body: height 0.04, standoff 0, extent -20.4,-14.7 -18.9,-14.1
3D body: height 0.04, standoff 0, extent -20.4,-13.9 -18.9,-13.3
3D body: height 0.04, standoff 0, extent -20.4,-13.1 -18.9,-12.5
3D body: height 0.04, standoff 0, extent -20.4,-12.3 -18.9,-11.7
3D body: height 0.04, standoff 0, extent -20.4,-11.5 -18.9,-10.9
3D body: height 0.04, standoff 0, extent -20.4,-10.7 -18.9,-10.1
3D body: height 0.04, standoff 0, extent -20.4,-9.9 -18.9,-9.3
3D body: height 0.04, standoff 0, extent -20.4,-9.1 -18.9,-8.5
3D body: height 0.04, standoff 0, extent -20.4,-8.3 -18.9,-7.7
3D body: height 0.04, standoff 0, extent -20.4,-7.5 -18.9,-6.9
3D body: height 0.04, standoff 0, extent -20.4,-6.7 -18.9,-6.1
3D body: height 0.04, standoff 0, extent -20.4,-5.9 -18.9,-5.3
3D body: height 0.04, standoff 0, extent -20.4,-5.1 -18.9,-4.5
3D body: height 0.04, standoff 0, extent -20.4,-4.3 -18.9,-3.7
3D body: height 0.04, standoff 0, extent -20.4,-3.5 -18.9,-2.9
3D body: height 0.04, standoff 0, extent -20.4,-2.7 -18.9,-2.1
3D body: height 0.04, standoff 0, extent -20.4,-1.9 -18.9,-1.3
3D body: height 0.04, standoff 0, extent -20.4,-1.1 -18.9,-0.5
3D body: height 0.04, standoff 0, extent -20.4,-0.3 -18.9,0.3
3D body: height 0.04, standoff 0, extent -20.4,0.5 -18.9,1.1
3D body: height 0.04, standoff 0, extent -20.4,1.3 -18.9,1.9
3D body: height 0.04, standoff 0, extent -20.4,2.1 -18.9,2.7
3D body: height 0.04, standoff 0, extent -20.4,2.9 -18.9,3.5
3D body: height 0.04, standoff 0, extent -20.4,3.7 -18.9,4.3
3D body: height 0.04, standoff 0, extent -20.4,4.5 -18.9,5.1
3D body: height 0.04, standoff 0, extent -20.4,5.3 -18.9,5.9
3D body: height 0.04, standoff 0, extent -20.4,6.1 -18.9,6.7
3D body: height 0.04, standoff 0, extent -20.4,6.9 -18.9,7.5
3D body: height 0.04, standoff 0, extent -20.4,7.7 -18.9,8.3
3D body: height 0.04, standoff 0, extent -20.4,8.5 -18.9,9.1
3D body: height 0.04, standoff 0, extent -20.4,9.3 -18.9,9.9
3D body: height 0.04, standoff 0, extent -20.4,10.1 -18.9,10.7
3D body: height 0.04, standoff 0, extent -20.4,10.9 -18.9,11.5
3D body: height 0.04, standoff 0, extent -20.4,11.7 -18.9,12.3
3D body: height 0.04, standoff 0, extent -20.4,12.5 -18.9,13.1
3D body: height 0.04, standoff 0, extent -20.4,13.3 -18.9,13.9
3D body: height 0.04, standoff 0, extent -20.4,14.1 -18.9,14.7
3D body: height 0.04, standoff 0, extent -20.4,14.9 -18.9,15.5
3D body: height 0.04, standoff 0, extent -20.4,15.7 -18.9,16.3
3D body: height 0.04, standoff 0, extent -20.4,16.5 -18.9,17.1
3D body: height 0.04, standoff 0, extent -20.4,17.3 -18.9,17.9
3D body: height 0.04, standoff 0, extent -20.4,18.1 -18.9,18.7
3D body: height 0.04, standoff 0, extent -20.4,19.4 -19.4,20.4
3D body: height 0.04, standoff 0, extent -20.4,19.4 -19.4,20.4
3D body "TCM_SingleNode_SOM188.step": height 1.2, standoff -1.23, extent -20.4,-20.408 20.494,20.392